# Altium schematic symbol library Filter components.SchLib: 15 symbols
Pins are listed as number, name and electrical type; pins without a type are passive.

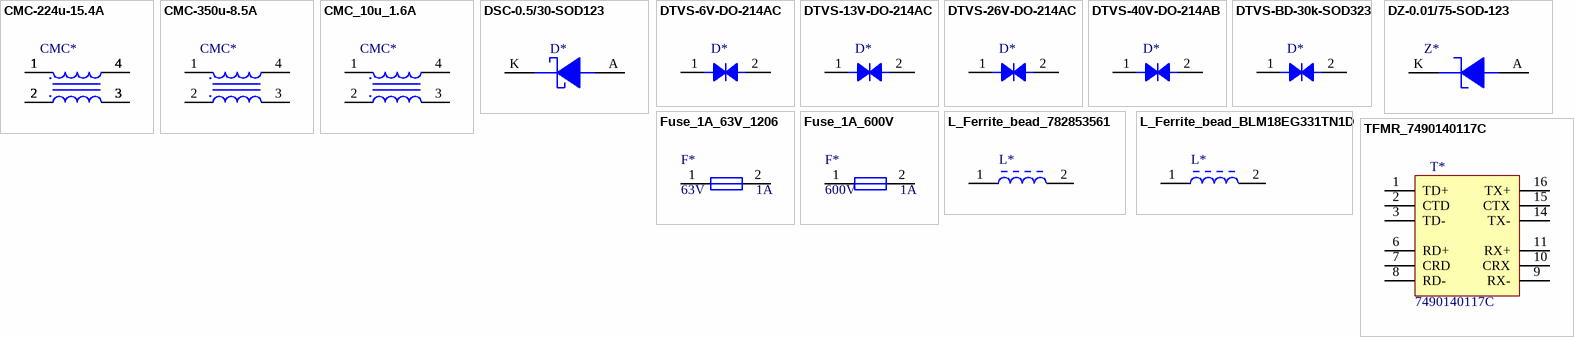
[diagram p0: symbols CMC-224u-15.4A to TFMR_7490140117C]

## CMC-224u-15.4A
designator CMC*, comment TCK-087  (value not drawn)
Common Mode Choke for use with TEP 160 Series; TEP 200WIR Series; Manufacturer: Traco Power; Inductance: 224uH; Current Rating: 15.4A; Number of Lines: 2; Voltage Rating (DC): 500V; .Creator: GP; Supplier 1: RSComponents; Manufacturer Part Number: TCK-087; RoHS: Yes; Category: Uncategorized; Stock 1: 1; Pricing 1: 1=9,11800, 5=8,84900, 10=8,56700, 25=8,20400, 50=7,84100 (USD); Mount: Through Hole; Min Operating Temperature: -40°C; Max Operating Temperature: 105°C; REACH SVHC: No SVHC; RoHS Compliant: Yes; ComponentLink1URL: https://datasheet.ciiva.com/30486/0900766b81216903-30486835.pdf?src-supplier=RSComponents; ComponentLink1Description: https://datasheet.ciiva.com/30486/0900766b81216903-30486835.pdf?src-supplier=RSComponents; Supplier Part Number 1: 7817004; .PCBcheck: *; .SCHcheck: *
footprint CMC-224u-15.4A
pins: 1 1_IN, 1 1_IN, 1 1_IN, 1 1_IN, 1 1_IN, 1 1_IN, 1 1_IN, 1 1_IN, 2 2_IN, 2 2_IN, 2 2_IN, 2 2_IN, 2 2_IN, 2 2_IN, 2 2_IN, 2 2_IN, 3 3_OUT, 3 3_OUT, 3 3_OUT, 3 3_OUT, 3 3_OUT, 3 3_OUT, 3 3_OUT, 3 3_OUT, 4 4_OUT, 4 4_OUT, 4 4_OUT, 4 4_OUT, 4 4_OUT, 4 4_OUT, 4 4_OUT, 4 4_OUT

## CMC-350u-8.5A
designator CMC*, comment 7448229004  (value not drawn)
Choke/Filter, Common Mode, WE-CMB Size S HC .35mH 8.5A 7mOhm; Manufacturer: Wurth Electronics; Number of Lines: 2; Inductance: 350uH; DC Resistance (DCR): 7mR; Tolerance: 30%; Resistance: 0.007R; Test Frequency: 50Hz; Lead Diameter: 1mm; .Creator: GP; Supplier 1: RSComponents; Manufacturer Part Number: 7448229004; RoHS: Yes; Category: Common Mode Chokes; Stock 1: 1; Pricing 1: 1=6,28100, 10=5,90400, 25=5,46000, 50=5,15100, 100=4,68000 (USD); Mount: Through Hole,Radial; Min Operating Temperature: -40°C; Max Operating Temperature: 125°C; Package Quantity: 80; Packaging: Tray; Current: 8.5A; Series: WE-CMB HC; Max DC Current: 8.5A; Termination: Radial; Length: 18.5mm; Width: 0.571inch; Height: 22mm; Lead Pitch: 5mm; Depth: 14.5mm; RoHS Compliant: Yes; ComponentLink1URL: https://datasheet.ciiva.com/6214/7448229004-6214791.pdf?src-supplier=Digi-Key; ComponentLink1Description: https://datasheet.ciiva.com/6214/7448229004-6214791.pdf?src-supplier=Digi-Key; ComponentLink2URL: https://datasheet.ciiva.com/11796/0900766b80f88bc0-11796060.pdf?src-supplier=RSComponents; ComponentLink2Description: https://datasheet.ciiva.com/11796/0900766b80f88bc0-11796060.pdf?src-supplier=RSComponents; Supplier Part Number 1: 7362131
footprint CMC-350u-8.5A
pins: 1 1_IN, 2 2_IN, 3 3_OUT, 4 4_OUT

## CMC_10u_1.6A
designator CMC*, comment 744226  (value not drawn)
Common Mode Chokes Dual 10uH 920Ohm 1kHz 1.6A 80mOhm DCR SMD T/R; Manufacturer: Wurth Electronics; Core Material: Ferrite; Voltage Rating: 80V; Tolerance: 30%; Impedance: 920R; Resistance: 80mR; Number of Lines: 2; .Creator: GP; Category: Common Mode Line Filter; ComponentLink1Description: Datasheet; ComponentLink1URL: https://www.we-online.com/catalog/datasheet/744226.pdf; ComponentLink2Description: Where buy it; ComponentLink2URL: https://www.we-online.com/catalog/en/WE-SL2?sq=744226#744226; Supplier 1: Digi-Key; Manufacturer Part Number: 744226; RoHS: Yes; Stock 1: 1943; Pricing 1: 1=2,55000, 10=2,51500, 50=2,27200, 100=2,19100, 500=2,02900 (USD); Mount: Surface Mount; Case/Package: SMD/SMT; Number of Pins: 4; Weight: 0.017672oz; Min Operating Temperature: -40°C; Max Operating Temperature: 125°C; Packaging: Tape and Reel; Package Quantity: 1; Termination: SMD/SMT; Series: WE-SL2; Inductance: 10uH; Voltage Rating (DC): 80V; Current Rating: 1.6A; Max DC Current: 1.6A; DC Resistance (DCR): 80mR; Test Frequency: 1kHz; Current: 1.6A; Inductance Tolerance: 30%; DC Current: 1.6A; Length: 9.2mm; Width: 6mm; Height: 5mm; Depth: 6.3mm; RoHS Compliant: Yes; REACH SVHC: No SVHC; Lead Free: Lead Free; Supplier Part Number 1: 732-1475-1-ND
footprint CMC_10u_1.6A (Molded Inductor, 2-Leads, Body 9,20x6,00mm, IPC Low Density)
pins: 1 1_IN, 2 2_IN, 3 3_OUT, 4 4_OUT

## DSC-0.5/30-SOD123
designator D*, comment MBR0530  (value not drawn)
VR=30V IF=500mA 30pF P=410mW; Element Configuration: Single; Forward Voltage: 430mV; Peak Non-Repetitive Surge Current: 5.5A; Average Rectified Current: 500mA; Max Reverse Leakage Current: 130uA; Max Reverse Voltage (DC): 30V; Polarity: Standard; .Creator: GP; Category: Diode; ComponentLink1Description: Datasheet; ComponentLink1URL: *; ComponentLink2Description: Where buy it; ComponentLink2URL: *; Supplier 1: Newark; Stock 1: 9; Pricing 1: 1=0,34400, 10=0,23900, 100=0,12200, 500=0,10000 (USD); Mount: Surface Mount; Contact Plating: Tin,Matte; Weight: 0.03g; Package Quantity: 1; Max Surge Current: 5.5A; Forward Current: 500mA; Max Reverse Current: 130uA; Max Repetitive Reverse Voltage (Vrrm): 30V; Max Forward Surge Current (Ifsm): 5.5A; Voltage Rating (DC): 30V; Current Rating: 500mA; Output Current: 500mA; Series: -; Length: 2.7mm; Width: 1.6mm; Height: 1.03mm; Radiation Hardening: No; RoHS Compliant: Yes; REACH SVHC: No SVHC; Lead Free: Lead Free; ComponentLink3URL: https://datasheet.ciiva.com/30479/0900766b810e2512-30479401.pdf?src-supplier=RSComponents; ComponentLink3Description: https://datasheet.ciiva.com/30479/0900766b810e2512-30479401.pdf?src-supplier=RSComponents; ComponentLink4URL: https://datasheet.ciiva.com/34301/974753-34301826.pdf?src-supplier=Jameco; ComponentLink4Description: https://datasheet.ciiva.com/34301/974753-34301826.pdf?src-supplier=Jameco; ComponentLink5URL: https://datasheet.ciiva.com/910/mbr0530-910516.pdf?src-supplier=Digi-Key; ComponentLink5Description: https://datasheet.ciiva.com/910/mbr0530-910516.pdf?src-supplier=Digi-Key; ComponentLink6URL: https://datasheet.ciiva.com/25931/mbr0530-25931989.pdf?src-supplier=Avnet+Europe; ComponentLink6Description: https://datasheet.ciiva.com/25931/mbr0530-25931989.pdf?src-supplier=Avnet+Europe; ComponentLink7URL: https://datasheet.ciiva.com/8300/mbr0530-8300905.pdf?src-supplier=Avnet; ComponentLink7Description: https://datasheet.ciiva.com/8300/mbr0530-8300905.pdf?src-supplier=Avnet; ComponentLink8URL: https://datasheet.ciiva.com/17318/mbr0530-17318568.pdf?src-supplier=Future+Electronics; ComponentLink8Description: https://datasheet.ciiva.com/17318/mbr0530-17318568.pdf?src-supplier=Future+Electronics; ComponentLink9URL: https://datasheet.ciiva.com/15144/getdatasheetpartid-86760-15144598.pdf?src-supplier=Verical; ComponentLink9Description: https://datasheet.ciiva.com/15144/getdatasheetpartid-86760-15144598.pdf?src-supplier=Verical; ComponentLink10URL: https://datasheet.ciiva.com/910/mbr0530-910518.pdf?src-supplier=Digi-Key; ComponentLink10Description: https://datasheet.ciiva.com/910/mbr0530-910518.pdf?src-supplier=Digi-Key; Supplier Part Number 1: 15R3453
footprint DSC-SOD123 (SOIC, 2-Leads, Body 1,60x2,69mm, Pitch 1,27mm, IPC Low Density)
pins: A, K

## DTVS-6V-DO-214AC
designator D*, comment 824501600  (value not drawn)
TVS diode [Würth Elektronik] 824501600 TVS diode; Manufacturer: Wurth Electronics; Number of Bidirectional Channels: 1; Reverse Standoff Voltage: 6V; Min Breakdown Voltage: 7.02V; Clamping Voltage: 10.3V; Peak Pulse Power: 400W; Power Line Protection: No; Polarity: Bidirectional; Peak Pulse Current: 38.8A; .Creator: DO; ComponentLink1Description: Where buy it; ComponentLink1URL: https://www.we-online.com/catalog/en/WE-TVSP?sq=824501600#824501600; Supplier 1: Mouser; Manufacturer Part Number: 824501600; RoHS: Yes; Category: TVS Diodes; Stock 1: 780; Pricing 1: 1=0,28000, 10=0,26100, 50=0,26100, 100=0,23400, 500=0,20400, 1000=0,17400, 10000=0,17400 (USD); Mount: Surface Mount; Number of Pins: 2; Min Operating Temperature: -65°C; Max Operating Temperature: 150°C; Packaging: Cut Tape; Max Breakdown Voltage: 7.02V; Resistor Type: Zener; REACH SVHC: Unknown; RoHS Compliant: Yes; ComponentLink2URL: http://www.farnell.com/datasheets/2036401.pdf?src-supplier=Element14; ComponentLink2Description: http://www.farnell.com/datasheets/2036401.pdf?src-supplier=Element14; Supplier Part Number 1: 710-824501600; ComponentLink3URL: https://katalog.we-online.de/pbs/datasheet/824501600.pdf?src-supplier=Digi-Key; ComponentLink3Description: https://katalog.we-online.de/pbs/datasheet/824501600.pdf?src-supplier=Digi-Key
footprint DTVS-DO-214AC (Molded Diode, 2-Leads, Body 5,11x2,67mm, IPC Medium Density)
pins: 1, 2

## DTVS-13V-DO-214AC
designator D*, comment 824501131  (value not drawn)
Tvs Diode, 400W, 13V, Bidir, DO-214AC; Manufacturer: Wurth Electronics; Number of Bidirectional Channels: 1; Min Breakdown Voltage: 15.15V; Clamping Voltage: 21.5V; Power Line Protection: No; Polarity: Bidirectional; Peak Pulse Current: 18.6A; .Creator: DO; Supplier 1: Digi-Key; Manufacturer Part Number: 824501131; RoHS: Yes; Category: TVS Diodes; Stock 1: 1000; Pricing 1: 1=0,27000 (USD); Mount: Surface Mount; Number of Pins: 2; Min Operating Temperature: -65°C; Max Operating Temperature: 150°C; Packaging: Cut Tape; Reverse Standoff Voltage: 13V; Peak Pulse Power: 400W; Max Breakdown Voltage: 15.15V; Resistor Type: Zener; REACH SVHC: Unknown; RoHS Compliant: Yes; ComponentLink1URL: https://katalog.we-online.de/pbs/datasheet/824501131.pdf?src-supplier=Digi-Key; ComponentLink1Description: https://katalog.we-online.de/pbs/datasheet/824501131.pdf?src-supplier=Digi-Key; ComponentLink2URL: http://www.farnell.com/datasheets/2036399.pdf?src-supplier=Element14; ComponentLink2Description: http://www.farnell.com/datasheets/2036399.pdf?src-supplier=Element14; ComponentLink3Description: Where buy it; ComponentLink3URL: https://www.we-online.com/catalog/en/WE-TVSP?sq=824501131#824501131; Supplier Part Number 1: 732-824501131CT-ND
footprint DTVS-DO-214AC (Molded Diode, 2-Leads, Body 5,11x2,67mm, IPC Medium Density)
pins: 1, 2

## DTVS-26V-DO-214AC
designator D*, comment 824501261  (value not drawn)
TVS diode [Würth Elektronik] 824501261 TVS diode; Manufacturer: Wurth Electronics; Number of Bidirectional Channels: 1; Reverse Standoff Voltage: 26V; Min Breakdown Voltage: 30.4V; Clamping Voltage: 42.1V; Peak Pulse Power: 400W; Power Line Protection: No; Polarity: Bidirectional; Peak Pulse Current: 9.5A; .Creator: DO; Supplier 1: RSComponents; Manufacturer Part Number: 824501261; RoHS: Yes; Category: TVS Diodes; Stock 1: 1; Pricing 1: 50=0,29400, 250=0,26100, 500=0,21200, 1000=0,20100, 2000=0,19600 (USD); Mount: Surface Mount; Number of Pins: 2; Min Operating Temperature: -65°C; Max Operating Temperature: 150°C; Packaging: Cut Tape; Max Breakdown Voltage: 30.4V; Resistor Type: Zener; REACH SVHC: Unknown; RoHS Compliant: Yes; ComponentLink1URL: http://www.farnell.com/datasheets/2036389.pdf?src-supplier=Farnell; ComponentLink1Description: http://www.farnell.com/datasheets/2036389.pdf?src-supplier=Farnell; ComponentLink2URL: http://www.farnell.com/datasheets/2036389.pdf?src-supplier=Element14; ComponentLink2Description: http://www.farnell.com/datasheets/2036389.pdf?src-supplier=Element14; ComponentLink3URL: https://katalog.we-online.de/pbs/datasheet/824501261.pdf?src-supplier=Digi-Key; ComponentLink3Description: https://katalog.we-online.de/pbs/datasheet/824501261.pdf?src-supplier=Digi-Key; Supplier Part Number 1: 9217305; ComponentLink4Description: Where buy it; ComponentLink4URL: https://www.we-online.com/catalog/en/WE-TVSP?sq=824501261#824501261
footprint DTVS-DO-214AC (Molded Diode, 2-Leads, Body 5,11x2,67mm, IPC Medium Density)
pins: 1, 2

## DTVS-40V-DO-214AB
designator D*, comment 824551301  (value not drawn)
TVS diode [Würth Elektronik] 824551301 TVS diode; Manufacturer: Wurth Electronics; Number of Bidirectional Channels: 1; Reverse Standoff Voltage: 30V; Min Breakdown Voltage: 35.05V; Clamping Voltage: 48.4V; Peak Pulse Power: 3kW; Power Line Protection: No; Polarity: Bidirectional; Peak Pulse Current: 62A; .Creator: DO; ComponentLink2Description: Where buy it; ComponentLink2URL: https://www.we-online.com/catalog/en/WE-TVSP?sq=824551301#824551301; Supplier 1: RSComponents; Manufacturer Part Number: 824551301; RoHS: Yes; Category: TVS Diodes; Stock 1: 1; Pricing 1: 10=1,72500, 50=1,54700, 100=1,45300, 250=1,35100, 500=1,15000 (USD); Mount: Surface Mount; Number of Pins: 2; Min Operating Temperature: -65°C; Max Operating Temperature: 150°C; Packaging: Cut Tape; Max Breakdown Voltage: 35.05V; Resistor Type: Zener; REACH SVHC: Unknown; RoHS Compliant: Yes; ComponentLink1URL: http://www.farnell.com/datasheets/2036459.pdf?src-supplier=Element14; ComponentLink1Description: http://www.farnell.com/datasheets/2036459.pdf?src-supplier=Element14; Supplier Part Number 1: 9217092P
footprint DTVS-DO-214AB (Molded Diode, 2-Leads, Body 7,94x5,90mm)
pins: 1, 2

## DTVS-BD-30k-SOD323
designator D*, comment ESDLIN1524BJ  (value not drawn)
ESDLIN1524BJ Series 18.9 V Bi-Directional Transil Diode ESD Protection - SOD-323; Direction: Bidirectional; Capacitance: 20pF; Clamping Voltage: 50V; Number of Bidirectional Channels: 1; Reverse Standoff Voltage: 24V; Power Line Protection: No; Breakdown Voltage: 27.8V; Peak Pulse Power: 160W; Min Breakdown Voltage: 25.4V; Peak Pulse Current: 3A; Reverse Breakdown Voltage: 17.1V; Leakage Current: 1nA; ESD Protection: Yes; Test Current: 5mA; Max Reverse Leakage Current: 50nA; Max Breakdown Voltage: 30.3V; Element Configuration: Single; Diode Type: ZENER; .Creator: GP; Category: Diode; ComponentLink1Description: Datasheet; ComponentLink1URL: *; ComponentLink2Description: Where buy it; ComponentLink2URL: *; Supplier 1: Digi-Key; Stock 1: 96; Pricing 1: 1=0,43000, 10=0,32500, 100=0,20230, 500=0,13842, 1000=0,10648 (USD); Mount: Surface Mount; Package Quantity: 1; Number of Channels: 1; Polarity: Bidirectional; Termination: SMD/SMT; Resistor Type: Zener; Series: Automotive, AEC-Q101, TRANSIL™; Number of Elements: 1; Max Surge Current: 3A; Length: 1.8mm; Width: 1.45mm; Height: 1.07mm; Depth: 1.45mm; Radiation Hardening: No; RoHS Compliant: Yes; REACH SVHC: No SVHC; Lead Free: Lead Free; ComponentLink3URL: https://datasheet.ciiva.com/16582/cd00131990-16582003.pdf?src-supplier=Avnet+Europe; ComponentLink3Description: https://datasheet.ciiva.com/16582/cd00131990-16582003.pdf?src-supplier=Avnet+Europe; ComponentLink4URL: https://datasheet.ciiva.com/14186/esdlin1524bj-series-tds-eng-14186564.pdf?src-supplier=Distrelec; ComponentLink4Description: https://datasheet.ciiva.com/14186/esdlin1524bj-series-tds-eng-14186564.pdf?src-supplier=Distrelec; ComponentLink5URL: https://datasheet.ciiva.com/1276/1689780-1276966.pdf?src-supplier=Element14; ComponentLink5Description: https://datasheet.ciiva.com/1276/1689780-1276966.pdf?src-supplier=Element14; ComponentLink6URL: https://datasheet.ciiva.com/4510/cd00131990-114646-4510471.pdf?src-supplier=Mouser; ComponentLink6Description: https://datasheet.ciiva.com/4510/cd00131990-114646-4510471.pdf?src-supplier=Mouser; ComponentLink7URL: https://datasheet.ciiva.com/15143/getdatasheetpartid-148441-15143786.pdf?src-supplier=Verical; ComponentLink7Description: https://datasheet.ciiva.com/15143/getdatasheetpartid-148441-15143786.pdf?src-supplier=Verical; ComponentLink8URL: https://datasheet.ciiva.com/338/cd00131990-338843.pdf?src-supplier=Digi-Key; ComponentLink8Description: https://datasheet.ciiva.com/338/cd00131990-338843.pdf?src-supplier=Digi-Key; ComponentLink9URL: https://datasheet.ciiva.com/338/cd00131990-338844.pdf?src-supplier=Digi-Key; ComponentLink9Description: https://datasheet.ciiva.com/338/cd00131990-338844.pdf?src-supplier=Digi-Key; ComponentLink10URL: https://datasheet.ciiva.com/338/cd00131990-338845.pdf?src-supplier=Digi-Key; ComponentLink10Description: https://datasheet.ciiva.com/338/cd00131990-338845.pdf?src-supplier=Digi-Key; ComponentLink11URL: https://datasheet.ciiva.com/41443/001184257-da-01-en-transil-diode-e-esdlin1524bj-sod-323-stm-41443477.pdf?src-supplier=Conrad; ComponentLink11Description: https://datasheet.ciiva.com/41443/001184257-da-01-en-transil-diode-e-esdlin1524bj-sod-323-stm-41443477.pdf?src-supplier=Conrad; Supplier Part Number 1: 497-7751-1-ND
footprint DTVS-BD-30k-SOD323 (SOIC, 2-Leads, Body 1,28x1,66mm, Pitch 1,27mm, IPC Low Density)
pins: 1, 2

## DZ-0.01/75-SOD-123
designator Z*, comment MMSZ5240C-HE3-08  (value not drawn)
Diode Zener Single 10V 2% 500mW 2-Pin SOD-123 T/R; Manufacturer: Vishay; Zener Current: 20mA; Max Reverse Leakage Current: 3uA; Impedance: 17R; .Creator: DO; Supplier 1: Mouser; RoHS: Yes; Category: Zener Diodes; Stock 1: 4964; Pricing 1: 1=0,36000, 10=0,29800, 50=0,29800, 100=0,15800, 1000=0,07100, 10000=0,04700 (USD); Mount: Surface Mount; Number of Pins: 2; Weight: 0.000363oz; Min Operating Temperature: -55°C; Max Operating Temperature: 150°C; Packaging: Tape and Reel; Package Quantity: 3000; Zener Voltage: 10V; Voltage Tolerance: 2%; Power Dissipation: 500mW; Max Power Dissipation: 500mW; Element Configuration: Single; Tolerance: 2%; RoHS Compliant: Yes; ComponentLink1URL: http://www.mouser.com/ds/2/427/mmsz5225-102133.pdf?src-supplier=Mouser; ComponentLink1Description: http://www.mouser.com/ds/2/427/mmsz5225-102133.pdf?src-supplier=Mouser; ComponentLink2URL: http://components.arrow.com/part/dataview/59571956S617370N5680?src-supplier=Arrow+Electronics; ComponentLink2Description: http://components.arrow.com/part/dataview/59571956S617370N5680?src-supplier=Arrow+Electronics; ComponentLink3URL: http://www.vishay.com/docs/85774/mmsz5225.pdf?src-supplier=Digi-Key; ComponentLink3Description: http://www.vishay.com/docs/85774/mmsz5225.pdf?src-supplier=Digi-Key; Supplier Part Number 1: 78-MMSZ5240C-HE3-08; ComponentLink4Description: Where buy it; ComponentLink4URL: https://www.mouser.es/ProductDetail/Vishay-Semiconductors/MMSZ5240C-HE3-08?qs=ESFF34UzhwiGAVchySN1uQ%3D%3D; Manufacturer Part Number: MMSZ5240C-HE3-08
footprint DSC-SOD123 (SOIC, 2-Leads, Body 1,60x2,69mm, Pitch 1,27mm, IPC Low Density)
pins: A, K

## Fuse_1A_63V_1206
designator F*, comment Current Rating: 1A  Voltage Rating (DC): 63V  (hidden comment: 0437001.WRA)
Fuse Chip Fast Acting 1A 63V SMD Solder Pad 1206 Ceramic T/R Automotive; Manufacturer: Littelfuse; Fuse Type: Board Mount (Cartridge Style Excluded); Approvals: CSA,cURus; .Creator: DO; Supplier 1: Digi-Key; Manufacturer Part Number: 0437001.WRA; RoHS: Yes; Category: Fuses; Stock 1: 5820; Pricing 1: 1=1,52000, 5=1,47000, 10=1,37600, 50=1,13860, 100=0,94880, 250=0,92508, 500=0,78276, 1000=0,68788 (USD); Mount: Surface Mount; Case/Package: 1206; Case Code (Imperial): 1206; Case Code (Metric): 3216; Min Operating Temperature: -55°C; Max Operating Temperature: 150°C; Packaging: Tape and Reel; Voltage Rating (AC): 63V; ComponentLink1URL: https://www.littelfuse.com/~/media/electronics/datasheets/fuses/littelfuse_fuse_437a_datasheet.pdf.pdf?src-supplier=Digi-Key; ComponentLink1Description: https://www.littelfuse.com/~/media/electronics/datasheets/fuses/littelfuse_fuse_437a_datasheet.pdf.pdf?src-supplier=Digi-Key; Supplier Part Number 1: F10001CT-ND; ComponentLink2Description: Where buy it; ComponentLink2URL: https://www.mouser.es/ProductDetail/Littelfuse/0437001WRA?qs=DXv0QSHKF4z9CJhPXjxR%252BA%3D%3D
footprint Fuse_1206 (Chip Resistor, 2-Leads, Body 3,20x1,58mm, IPC Medium Density)
pins: 1, 2

## Fuse_1A_600V
designator F*, comment Voltage Rating (DC): 600V  Current Rating: 1A  (hidden comment: 485001)
Surface Mount Fuses 600V 1A Fast Acting; Manufacturer 1: Littelfuse; Manufacturer Part Number 1: 0485001.DR; Body Material: Ceramic; Voltage Rating (AC): 250V; Resistance: 264mR; DC Cold Resistance: 304.4mR; Fuse Type: Board Mount (Cartridge Style Excluded); Approvals: UL,CSA; .Creator: DO; Supplier 1: Arrow Electronics; RoHS: Yes; Category: Fuses; Stock 1: 4123; Pricing 1: 1=2,82900, 5=2,81400, 10=2,75200, 50=2,59800, 100=2,40300, 250=2,37900, 500=2,30400, 1500=2,24900, 3000=2,11600 (USD); Mount: Surface Mount; Case/Package: SMD/SMT; Housing Material: Ceramic; Min Operating Temperature: -55°C; Max Operating Temperature: 125°C; Packaging: Tape and Reel; Package Quantity: 1; Series: 485; Termination: SMD/SMT; Fuse Current: 1A; Length: 12.1mm; Width: 0.177inch; Height: 0.177inch; Depth: 4.5mm; REACH SVHC: No SVHC; Lead Free: Lead Free; RoHS Compliant: Yes; ComponentLink1URL: http://www.farnell.com/datasheets/1945989.pdf?src-supplier=Farnell; ComponentLink1Description: http://www.farnell.com/datasheets/1945989.pdf?src-supplier=Farnell; ComponentLink2URL: http://www.farnell.com/datasheets/2282568.pdf?src-supplier=Farnell; ComponentLink2Description: http://www.farnell.com/datasheets/2282568.pdf?src-supplier=Farnell; ComponentLink3URL: http://www.mouser.com/ds/2/240/Littelfuse485_datasheet_080512-201879.pdf?src-supplier=Mouser; ComponentLink3Description: http://www.mouser.com/ds/2/240/Littelfuse485_datasheet_080512-201879.pdf?src-supplier=Mouser; ComponentLink4URL: http://components.arrow.com/part/dataview/56707787S790276N3675?src-supplier=Arrow+Electronics; ComponentLink4Description: http://components.arrow.com/part/dataview/56707787S790276N3675?src-supplier=Arrow+Electronics; ComponentLink5URL: http://www.littelfuse.com/~/media/Files/Littelfuse/Technical%20Resources/Documents/Data%20Sheets/Littelfuse_Fuse_485_Datasheet.pdf?src-supplier=Element14; ComponentLink5Description: http://www.littelfuse.com/~/media/Files/Littelfuse/Technical%20Resources/Documents/Data%20Sheets/Littelfuse_Fuse_485_Datasheet.pdf?src-supplier=Element14; ComponentLink6URL: http://www.littelfuse.com/~/media/electronics/datasheets/fuses/littelfuse_fuse_485_datasheet.pdf.pdf?src-supplier=Digi-Key; ComponentLink6Description: http://www.littelfuse.com/~/media/electronics/datasheets/fuses/littelfuse_fuse_485_datasheet.pdf.pdf?src-supplier=Digi-Key; Supplier Part Number 1: 0485001.DR; Voltage Rating: 600V
footprint Fuse_485001
pins: 1, 2

## L_Ferrite_bead_782853561
designator L*, comment 782853561  (value not drawn)
Manufacturer: Murata; Manufacturer Part Number: BLM18EG331TN1D; Core Material: Ferrite; Impedance: 330R; DC Resistance (DCR): 210mR; Tolerance: 25%; Current Rating: 500mA; Number of Lines: 1; Test Frequency: 100MHz; .Creator: GP; Supplier 1: Digi-Key; RoHS: Yes; Category: Ferrite Beads and Chips; Stock 1: 20037; Pricing 1: 1=0,23000, 10=0,17500, 25=0,14520, 50=0,12520, 100=0,11260, 250=0,09508, 500=0,08508, 1000=0,07257 (USD); Case/Package: 0603; Number of Pins: 2; Case Code (Metric): 1608; Case Code (Imperial): 0603; Material: Ferrite,Steel; Min Operating Temperature: -55°C; Max Operating Temperature: 125°C; Packaging: Tape and Reel; Max DC Current: 500mA; Number of Circuits: 1; Package Quantity: 1; Max Current Rating: 500mA; Termination: SMD/SMT; Series: BLM18E; Resistance: 210mR; Length: 1.6mm; Width: 0.8mm; Height: 0.8mm; Depth: 0.8mm; REACH SVHC: No SVHC; Lead Free: Lead Free; RoHS Compliant: Yes; ComponentLink1URL: https://datasheet.ciiva.com/1467/5169-1467232.pdf?src-supplier=Element14; ComponentLink1Description: https://datasheet.ciiva.com/1467/5169-1467232.pdf?src-supplier=Element14; ComponentLink2URL: https://datasheet.ciiva.com/11795/0900766b811b5866-11795405.pdf?src-supplier=RSComponents; ComponentLink2Description: https://datasheet.ciiva.com/11795/0900766b811b5866-11795405.pdf?src-supplier=RSComponents; ComponentLink3URL: https://datasheet.ciiva.com/41449/001172267-da-01-en-drossel-0603-330r-1-6x0-8mm-4000st-41449581.pdf?src-supplier=Conrad; ComponentLink3Description: https://datasheet.ciiva.com/41449/001172267-da-01-en-drossel-0603-330r-1-6x0-8mm-4000st-41449581.pdf?src-supplier=Conrad; ComponentLink4URL: https://datasheet.ciiva.com/1467/5169-1467233.pdf?src-supplier=Element14; ComponentLink4Description: https://datasheet.ciiva.com/1467/5169-1467233.pdf?src-supplier=Element14; ComponentLink5URL: https://datasheet.ciiva.com/1561/5169-1561345.pdf?src-supplier=Newark; ComponentLink5Description: https://datasheet.ciiva.com/1561/5169-1561345.pdf?src-supplier=Newark; ComponentLink6URL: https://datasheet.ciiva.com/3082/l0110s0101blm18e-3082714.pdf?src-supplier=Avnet; ComponentLink6Description: https://datasheet.ciiva.com/3082/l0110s0101blm18e-3082714.pdf?src-supplier=Avnet; ComponentLink7URL: https://datasheet.ciiva.com/6211/l0110s0101blm18e-6211470.pdf?src-supplier=Digi-Key; ComponentLink7Description: https://datasheet.ciiva.com/6211/l0110s0101blm18e-6211470.pdf?src-supplier=Digi-Key; ComponentLink8URL: https://datasheet.ciiva.com/6211/l0110s0101blm18e-6211471.pdf?src-supplier=Digi-Key; ComponentLink8Description: https://datasheet.ciiva.com/6211/l0110s0101blm18e-6211471.pdf?src-supplier=Digi-Key; Supplier Part Number 1: 490-5913-1-ND
footprint L_Ferrite_bead_0805 (Chip Inductor, 2-Leads, Body 1,60x0,80mm, IPC Low Density)
pins: 1, 2

## L_Ferrite_bead_BLM18EG331TN1D
designator L*, comment BLM18EG331TN1D  (value not drawn)
Ferrite Beads Multi-Layer 330Ohm 25% 100MHz 500mA 210mOhm DCR 0603 Paper T/R; Manufacturer: Murata; Impedance: 330R; DC Resistance (DCR): 210mR; Number of Lines: 1; .Creator: GP; Supplier 1: Digi-Key; Manufacturer Part Number: BLM18EG331TN1D; RoHS: Yes; Category: Ferrite Beads and Chips; Stock 1: 20037; Pricing 1: 1=0,23000, 10=0,17500, 25=0,14520, 50=0,12520, 100=0,11260, 250=0,09508, 500=0,08508, 1000=0,07257 (USD); Case/Package: 0603; Number of Pins: 2; Core Material: Ferrite; Case Code (Metric): 1608; Case Code (Imperial): 0603; Material: Ferrite,Steel; Min Operating Temperature: -55°C; Max Operating Temperature: 125°C; Tolerance: 25%; Packaging: Tape and Reel; Current Rating: 500mA; Max DC Current: 500mA; Number of Circuits: 1; Package Quantity: 1; Max Current Rating: 500mA; Termination: SMD/SMT; Test Frequency: 100MHz; Series: BLM18E; Resistance: 210mR; Length: 1.6mm; Width: 0.8mm; Height: 0.8mm; Depth: 0.8mm; REACH SVHC: No SVHC; Lead Free: Lead Free; RoHS Compliant: Yes; ComponentLink1URL: https://datasheet.ciiva.com/1467/5169-1467232.pdf?src-supplier=Element14; ComponentLink1Description: https://datasheet.ciiva.com/1467/5169-1467232.pdf?src-supplier=Element14; ComponentLink2URL: https://datasheet.ciiva.com/11795/0900766b811b5866-11795405.pdf?src-supplier=RSComponents; ComponentLink2Description: https://datasheet.ciiva.com/11795/0900766b811b5866-11795405.pdf?src-supplier=RSComponents; ComponentLink3URL: https://datasheet.ciiva.com/41449/001172267-da-01-en-drossel-0603-330r-1-6x0-8mm-4000st-41449581.pdf?src-supplier=Conrad; ComponentLink3Description: https://datasheet.ciiva.com/41449/001172267-da-01-en-drossel-0603-330r-1-6x0-8mm-4000st-41449581.pdf?src-supplier=Conrad; ComponentLink4URL: https://datasheet.ciiva.com/1467/5169-1467233.pdf?src-supplier=Element14; ComponentLink4Description: https://datasheet.ciiva.com/1467/5169-1467233.pdf?src-supplier=Element14; ComponentLink5URL: https://datasheet.ciiva.com/1561/5169-1561345.pdf?src-supplier=Newark; ComponentLink5Description: https://datasheet.ciiva.com/1561/5169-1561345.pdf?src-supplier=Newark; ComponentLink6URL: https://datasheet.ciiva.com/3082/l0110s0101blm18e-3082714.pdf?src-supplier=Avnet; ComponentLink6Description: https://datasheet.ciiva.com/3082/l0110s0101blm18e-3082714.pdf?src-supplier=Avnet; ComponentLink7URL: https://datasheet.ciiva.com/6211/l0110s0101blm18e-6211470.pdf?src-supplier=Digi-Key; ComponentLink7Description: https://datasheet.ciiva.com/6211/l0110s0101blm18e-6211470.pdf?src-supplier=Digi-Key; ComponentLink8URL: https://datasheet.ciiva.com/6211/l0110s0101blm18e-6211471.pdf?src-supplier=Digi-Key; ComponentLink8Description: https://datasheet.ciiva.com/6211/l0110s0101blm18e-6211471.pdf?src-supplier=Digi-Key; Supplier Part Number 1: 490-5913-1-ND
footprint L_Ferrite bread_BLM18EG331TN1D (Chip Inductor, 2-Leads, Body 1,60x0,80mm, IPC Low Density)
footprint L_Ferrite_Bead_0805 (Chip Inductor, 2-Leads, Body 1,60x0,80mm, IPC Low Density)
pins: 1, 2

## TFMR_7490140117C
designator T*, comment 7490140117C
footprint 7490140117C (SMD LAN Transformers, body 12.7x8.8mm, 16-Leads)
pins: 1 TD+, 2 CTD, 3 TD-, 6 RD+, 7 CRD, 8 RD-, 9 RX-, 10 CRX, 11 RX+, 14 TX-, 15 CTX, 16 TX+